# EAGLE library part 74HC73 (library IC_Logic)
Dual JK flip-flop with reset, negative-edge trigger Reference Datasheet <https://www.ti.com/lit/ds/symlink/cd74hct73.pdf?ts=1637643686691&ref_url=https%253A%252F%252Fwww.google.com%252F>
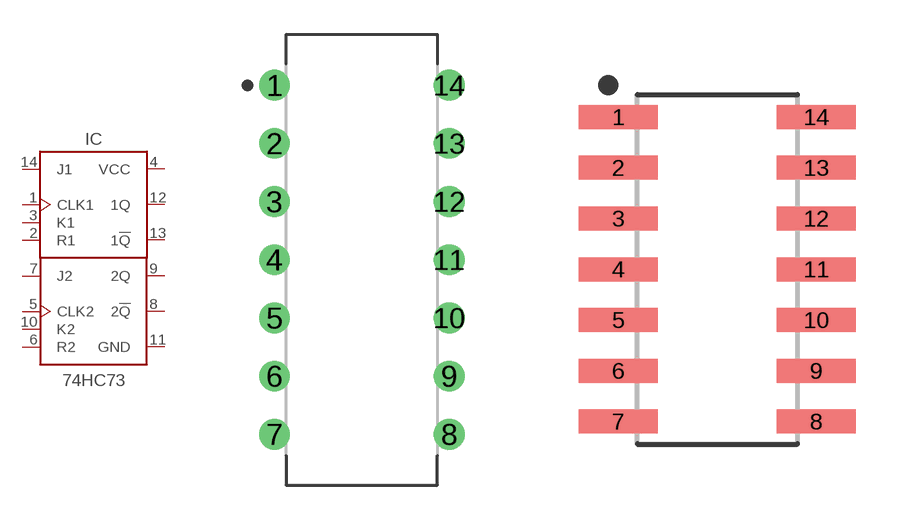
[diagram p5: symbol with the pads of DIP762W53P254L1969H508Q14B; footprints DIP762W53P254L1969H508Q14B, SOIC127P600X175-14N]

Designator prefix IC

## 74HC73_PDIP (CATEGORY: IC_Logic; DESCRIPTION: Dual JK flip-flop; MANUFACTURER: Generic; MPN: Generic; SUB-CATEGORY: Flip-flop; TYPE: JK; VALUE: 74HC73)  [DIP762W53P254L1969H508Q14B]
1  CLK1  in
2  R1  in
3  K1  in
4  VCC
5  CLK2  in
6  R2  in
7  J2  in
8  2!Q  out
9  2Q  out
10  K2  in
11  GND
12  1Q  out
13  1!Q  out
14  J1  in

## 74HC73_SOIC (CATEGORY: IC_Logic; DESCRIPTION: Dual JK flip-flop; MANUFACTURER: Generic; MPN: Generic; SUB-CATEGORY: Flip-flop; TYPE: JK; VALUE: 74HC73)  [SOIC127P600X175-14N]
Pads as for DIP762W53P254L1969H508Q14B

## Footprint DIP762W53P254L1969H508Q14B (pad centres in mm)
14-DIP, 2.54 mm (0.10 in) pitch, 7.62 mm (0.30 in) span, 19.69 X 6.35 X 5.08 mm body 14-pin DIP package with 2.54 mm (0.10 in) pitch, 7.62 mm (0.30 in) span with body size 19.69 X 6.35 X 5.08 mm
drill 0.743 pad 1.343: 1 -3.81,7.62; 2 -3.81,5.08; 3 -3.81,2.54; 4 -3.81,0; 5 -3.81,-2.54; 6 -3.81,-5.08; 7 -3.81,-7.62; 8 3.81,-7.62; 9 3.81,-5.08; 10 3.81,-2.54; 11 3.81,0; 12 3.81,2.54; 13 3.81,5.08; 14 3.81,7.62

## Footprint SOIC127P600X175-14N (pad centres in mm)
14-SOIC, 1.27 mm pitch, 6.00 mm span, 8.65 X 3.90 X 1.75 mm body 14-pin SOIC package with 1.27 mm pitch, 6.00 mm span with body size 8.65 X 3.90 X 1.75 mm
smd 1.968 x 0.599: 1 -2.473,3.81; 2 -2.473,2.54; 3 -2.473,1.27; 4 -2.473,0; 5 -2.473,-1.27; 6 -2.473,-2.54; 7 -2.473,-3.81; 8 2.473,-3.81; 9 2.473,-2.54; 10 2.473,-1.27; 11 2.473,0; 12 2.473,1.27; 13 2.473,2.54; 14 2.473,3.81